# Altium footprint library RES80.PcbLib: 2 footprints
Each footprint in its own frame and in the unit in brackets; x right, y up, seen from the top. Pads: shape width x height; smd on the part's side, far side on the other; paste and mask are expansions set on the pad; w line width, h text height; cw(c..) or ccw(c..) is an arc to the next point about the centre after c.
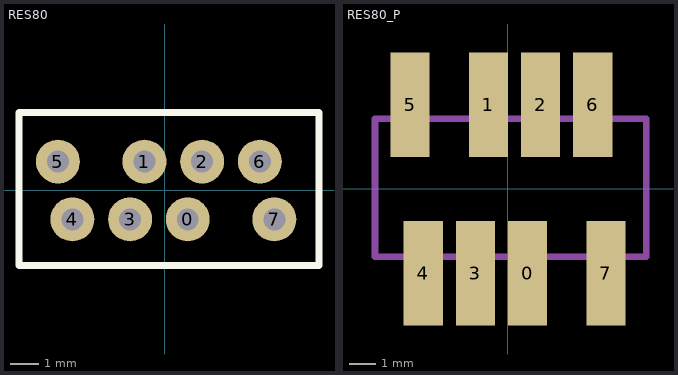
[diagram p0: the footprints below, top view; thin cyan lines are the x and y axes]

## RES80 [mil]
pads (8):
  round 60 hole 30: 0(31.5,-39.37) 1(-27.56,39.37) 2(51.18,39.37) 3(-47.24,-39.37) 4(-125.98,-39.37) 5(-145.67,39.37) 6(129.92,39.37) 7(149.61,-39.37)
Top Overlay:
  lines w10: -198.82,-102.36 -198.82,106.3 210.63,106.3 210.63,-102.36 -198.82,-102.36
3D body: height 425.2, standoff 3.94, extent -198.82,-102.36 210.63,106.3

## RES80_P [mm]
pads (8):
  rect 1.5x4 smd: 0(0.75,-3.225) 1(-0.75,3.225) 2(1.25,3.225) 3(-1.25,-3.225) 4(-3.25,-3.225) 5(-3.75,3.225) 6(3.25,3.225) 7(3.75,-3.225)
Mechanical 1:
  lines w0.254: -5.1,-2.6 -5.1,2.7 5.3,2.7 5.3,-2.6 -5.1,-2.6
3D body: height 10.8, standoff 0.1, extent -5.1,-2.6 5.3,2.7